# Altium schematic symbol library MOD.SchLib: 7 symbols
Pins are listed as number, name and electrical type; pins without a type are passive.

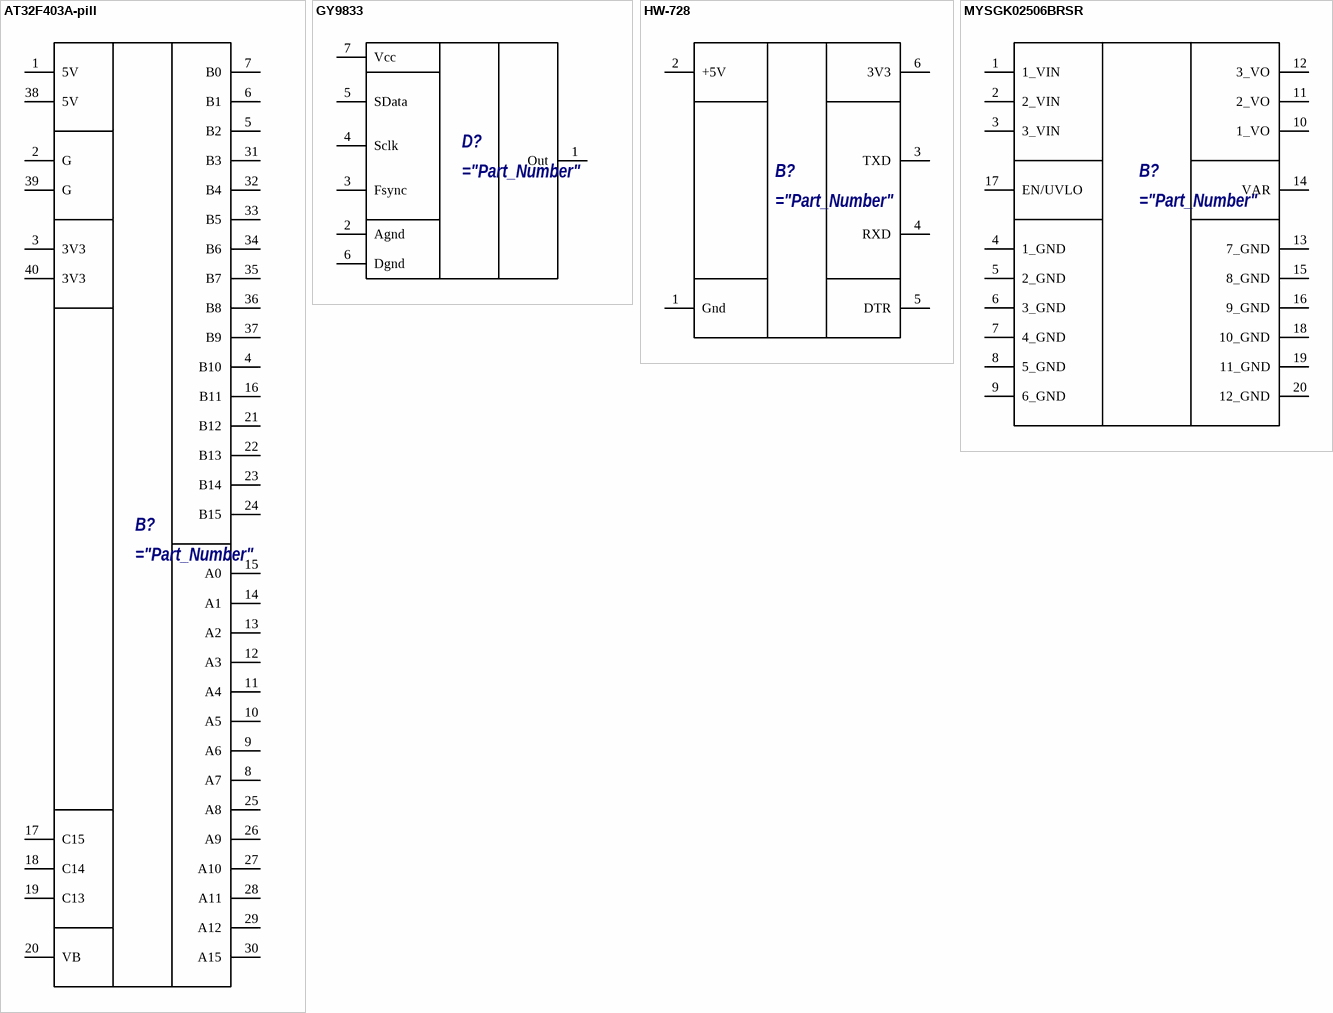
[diagram p0: symbols AT32F403A-pill to MYSGK02506BRSR]

## AT32F403A-pill
designator B?
="Purchase"
pins: 1 5V, 2 G, 3 3V3, 4 B10, 5 B2, 6 B1, 7 B0, 8 A7, 9 A6, 10 A5, 11 A4, 12 A3, 13 A2, 14 A1, 15 A0, 16 B11, 17 C15, 18 C14, 19 C13, 20 VB, 21 B12, 22 B13, 23 B14, 24 B15, 25 A8, 26 A9, 27 A10, 28 A11, 29 A12, 30 A15, 31 B3, 32 B4, 33 B5, 34 B6, 35 B7, 36 B8, 37 B9, 38 5V, 39 G, 40 3V3

## GY9833
designator D?
="Purchase"
pins: 1 Out, 2 Agnd, 3 Fsync, 4 Sclk, 5 SData, 6 Dgnd, 7 Vcc

## HW-728
designator B?
="Purchase"
pins: 1 Gnd, 2 +5V, 3 TXD, 4 RXD, 5 DTR, 6 3V3

## MYSGK02506BRSR
designator B?
="Purchase"
pins: 1 1_VIN (power), 2 2_VIN (power), 3 3_VIN (power), 4 1_GND (power), 5 2_GND (power), 6 3_GND (power), 7 4_GND (power), 8 5_GND (power), 9 6_GND (power), 10 1_VO (power), 11 2_VO (power), 12 3_VO (power), 13 7_GND (power), 14 VAR, 15 8_GND (power), 16 9_GND (power), 17 EN/UVLO, 18 10_GND (power), 19 11_GND (power), 20 12_GND (power)

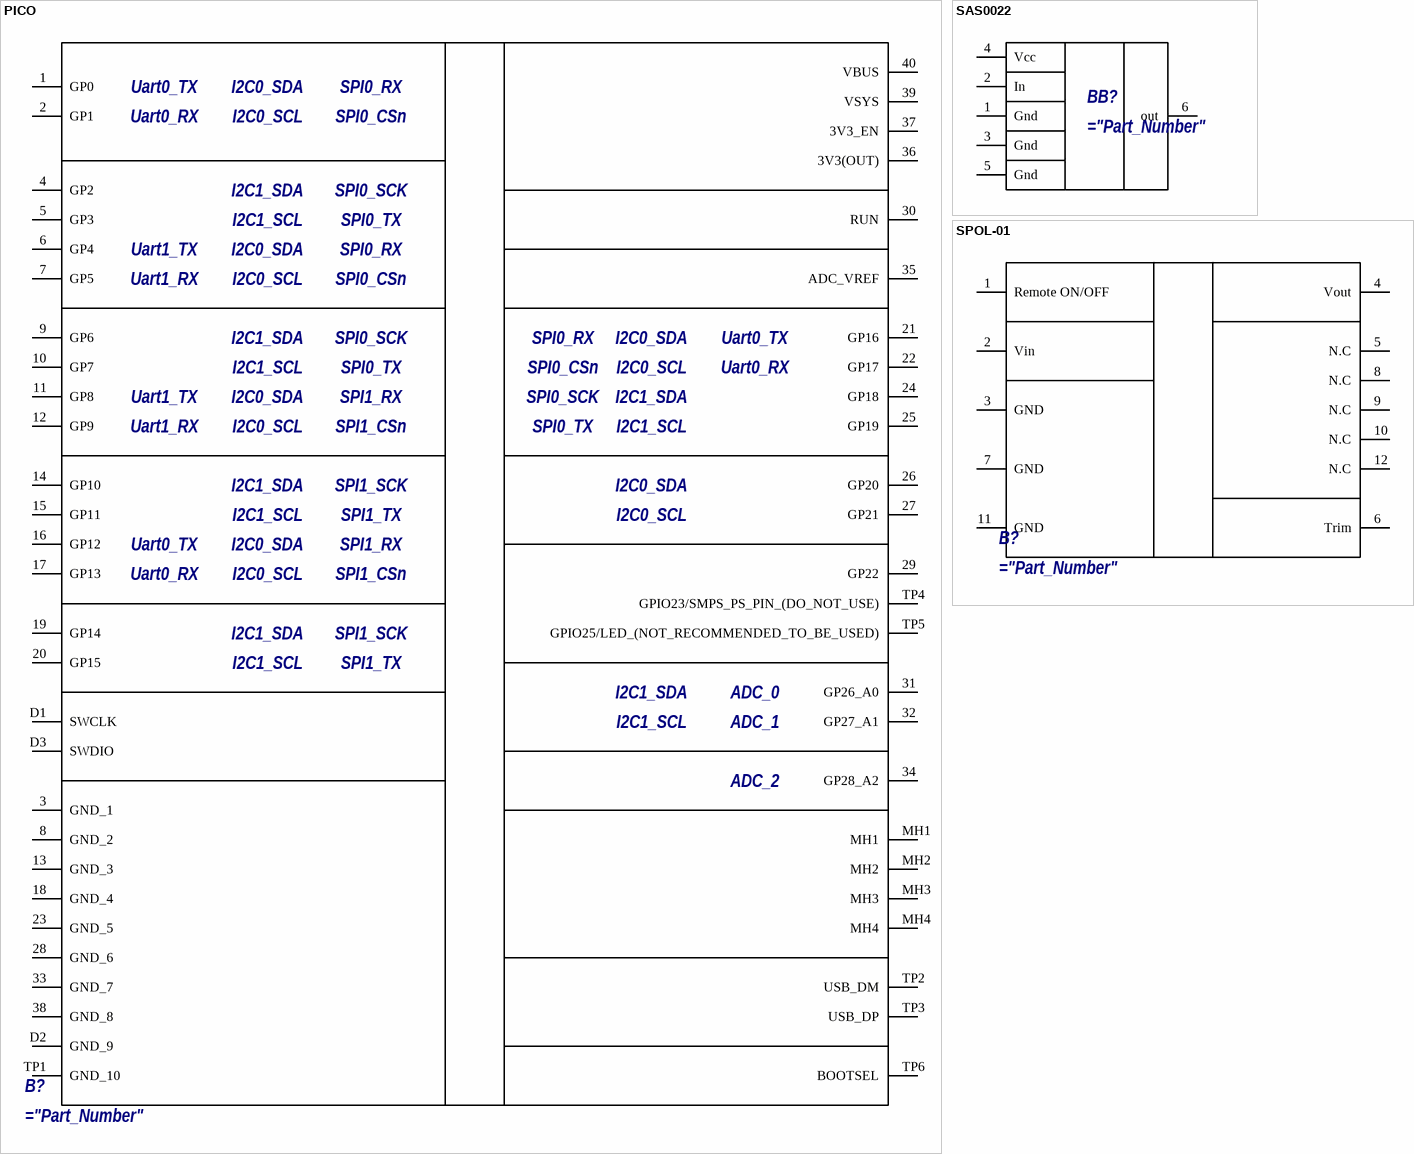
[diagram p1: symbols PICO to SPOL-01]

## PICO
designator B?
="Purchase"
pins: 1 GP0, 2 GP1, 3 GND_1, 4 GP2, 5 GP3, 6 GP4, 7 GP5, 8 GND_2, 9 GP6, 10 GP7, 11 GP8, 12 GP9, 13 GND_3, 14 GP10, 15 GP11, 16 GP12, 17 GP13, 18 GND_4, 19 GP14, 20 GP15, 21 GP16, 22 GP17, 23 GND_5, 24 GP18, 25 GP19, 26 GP20, 27 GP21, 28 GND_6, 29 GP22, 30 RUN, 31 GP26_A0, 32 GP27_A1, 33 GND_7, 34 GP28_A2, 35 ADC_VREF, 36 3V3(OUT), 37 3V3_EN, 38 GND_8, 39 VSYS, 40 VBUS, D1 SWCLK, D2 GND_9, D3 SWDIO, MH1, MH2, MH3, MH4, TP1 GND_10, TP2 USB_DM, TP3 USB_DP, TP4 GPIO23/SMPS_PS_PIN_(DO_NOT_USE), TP5 GPIO25/LED_(NOT_RECOMMENDED_TO_BE_USED), TP6 BOOTSEL
text: Uart0_TX; I2C0_SDA; SPI0_RX; Uart0_RX; I2C0_SCL; SPI0_CSn; I2C1_SDA; SPI0_SCK; I2C1_SCL; SPI0_TX; Uart1_TX; Uart1_RX; SPI1_RX; SPI1_CSn; SPI1_SCK; SPI1_TX; ADC_0; ADC_1; ADC_2

## SAS0022
designator BB?
="Purchase"
pins: 1 Gnd, 2 In, 3 Gnd, 4 Vcc, 5 Gnd, 6 out

## SPOL-01
designator B?
="Purchase"
pins: 1 Remote ON/OFF, 2 Vin, 3 GND, 4 Vout, 5 N.C, 6 Trim, 7 GND, 8 N.C, 9 N.C, 10 N.C, 11 GND, 12 N.C